# EAGLE library part XC3S1200FT256 (library xilinx_spartan3_virtex4_and_5)
Xilinx FPGA
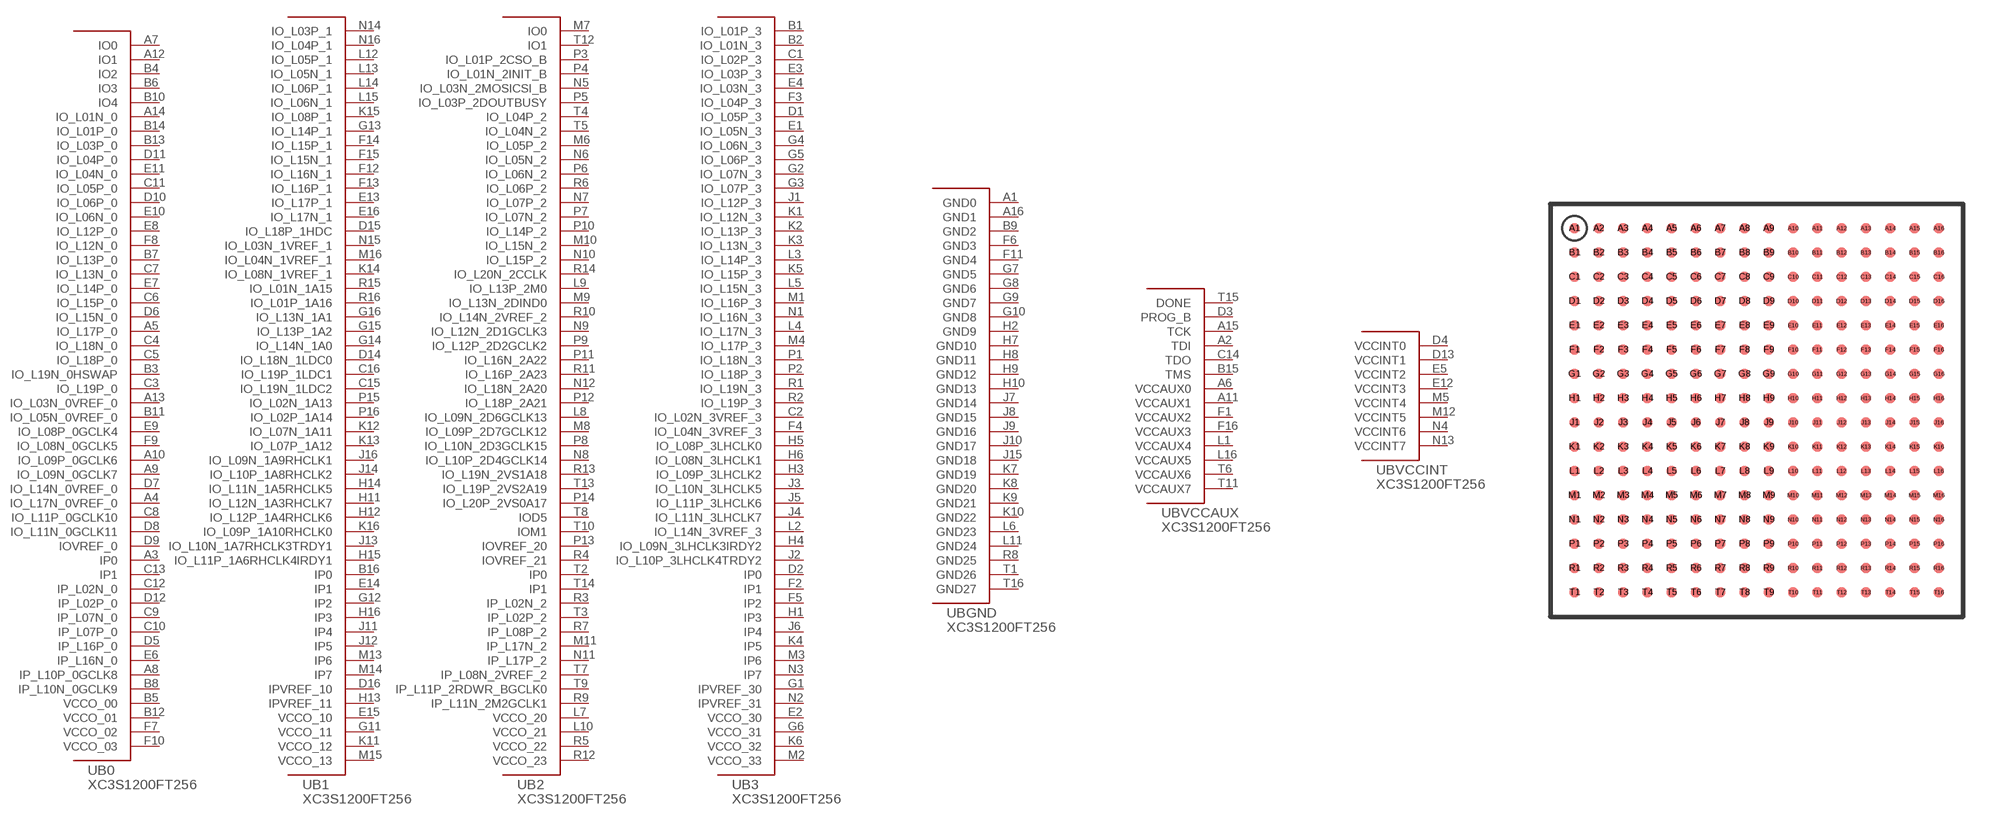
[diagram p54: symbol with the pads of FT256; footprint FT256]

Designator prefix U; gates B0=XC3S1200FT256_0 B1=XC3S1200FT256_1 B2=XC3S1200FT256_2 B3=XC3S1200FT256_3 BGND=XC3S1200FT256_GND BVCCAUX=XC3S1200FT256_VCCAUX BVCCINT=XC3S1200FT256_VCCINT

## XC3S1200FT256  [FT256]
A1  BGND:GND0  pas
A2  BVCCAUX:TDI
A3  B0:IP0
A4  B0:IO_L17N_0VREF_0
A5  B0:IO_L17P_0
A6  BVCCAUX:VCCAUX0  pas
A7  B0:IO0
A8  B0:IP_L10P_0GCLK8
A9  B0:IO_L09N_0GCLK7
A10  B0:IO_L09P_0GCLK6
A11  BVCCAUX:VCCAUX1  pas
A12  B0:IO1
A13  B0:IO_L03N_0VREF_0
A14  B0:IO_L01N_0
A15  BVCCAUX:TCK
A16  BGND:GND1  pas
B1  B3:IO_L01P_3
B2  B3:IO_L01N_3
B3  B0:IO_L19N_0HSWAP
B4  B0:IO2
B5  B0:VCCO_00  pas
B6  B0:IO3
B7  B0:IO_L13P_0
B8  B0:IP_L10N_0GCLK9
B9  BGND:GND2  pas
B10  B0:IO4
B11  B0:IO_L05N_0VREF_0
B12  B0:VCCO_01  pas
B13  B0:IO_L03P_0
B14  B0:IO_L01P_0
B15  BVCCAUX:TMS
B16  B1:IP0
C1  B3:IO_L02P_3
C2  B3:IO_L02N_3VREF_3
C3  B0:IO_L19P_0
C4  B0:IO_L18N_0
C5  B0:IO_L18P_0
C6  B0:IO_L15P_0
C7  B0:IO_L13N_0
C8  B0:IO_L11P_0GCLK10
C9  B0:IP_L07N_0
C10  B0:IP_L07P_0
C11  B0:IO_L05P_0
C12  B0:IP_L02N_0
C13  B0:IP1
C14  BVCCAUX:TDO
C15  B1:IO_L19N_1LDC2
C16  B1:IO_L19P_1LDC1
D1  B3:IO_L05P_3
D2  B3:IP0
D3  BVCCAUX:PROG_B
D4  BVCCINT:VCCINT0  pas
D5  B0:IP_L16P_0
D6  B0:IO_L15N_0
D7  B0:IO_L14N_0VREF_0
D8  B0:IO_L11N_0GCLK11
D9  B0:IOVREF_0
D10  B0:IO_L06P_0
D11  B0:IO_L04P_0
D12  B0:IP_L02P_0
D13  BVCCINT:VCCINT1  pas
D14  B1:IO_L18N_1LDC0
D15  B1:IO_L18P_1HDC
D16  B1:IPVREF_10
E1  B3:IO_L05N_3
E2  B3:VCCO_30  pas
E3  B3:IO_L03P_3
E4  B3:IO_L03N_3
E5  BVCCINT:VCCINT2  pas
E6  B0:IP_L16N_0
E7  B0:IO_L14P_0
E8  B0:IO_L12P_0
E9  B0:IO_L08P_0GCLK4
E10  B0:IO_L06N_0
E11  B0:IO_L04N_0
E12  BVCCINT:VCCINT3  pas
E13  B1:IO_L17P_1
E14  B1:IP1
E15  B1:VCCO_10  pas
E16  B1:IO_L17N_1
F1  BVCCAUX:VCCAUX2  pas
F2  B3:IP1
F3  B3:IO_L04P_3
F4  B3:IO_L04N_3VREF_3
F5  B3:IP2
F6  BGND:GND3  pas
F7  B0:VCCO_02  pas
F8  B0:IO_L12N_0
F9  B0:IO_L08N_0GCLK5
F10  B0:VCCO_03  pas
F11  BGND:GND4  pas
F12  B1:IO_L16N_1
F13  B1:IO_L16P_1
F14  B1:IO_L15P_1
F15  B1:IO_L15N_1
F16  BVCCAUX:VCCAUX3  pas
G1  B3:IPVREF_30
G2  B3:IO_L07N_3
G3  B3:IO_L07P_3
G4  B3:IO_L06N_3
G5  B3:IO_L06P_3
G6  B3:VCCO_31  pas
G7  BGND:GND5  pas
G8  BGND:GND6  pas
G9  BGND:GND7  pas
G10  BGND:GND8  pas
G11  B1:VCCO_11  pas
G12  B1:IP2
G13  B1:IO_L14P_1
G14  B1:IO_L14N_1A0
G15  B1:IO_L13P_1A2
G16  B1:IO_L13N_1A1
H1  B3:IP3
H2  BGND:GND9  pas
H3  B3:IO_L09P_3LHCLK2
H4  B3:IO_L09N_3LHCLK3IRDY2
H5  B3:IO_L08P_3LHCLK0
H6  B3:IO_L08N_3LHCLK1
H7  BGND:GND10  pas
H8  BGND:GND11  pas
H9  BGND:GND12  pas
H10  BGND:GND13  pas
H11  B1:IO_L12N_1A3RHCLK7
H12  B1:IO_L12P_1A4RHCLK6
H13  B1:IPVREF_11
H14  B1:IO_L11N_1A5RHCLK5
H15  B1:IO_L11P_1A6RHCLK4IRDY1
H16  B1:IP3
J1  B3:IO_L12P_3
J2  B3:IO_L10P_3LHCLK4TRDY2
J3  B3:IO_L10N_3LHCLK5
J4  B3:IO_L11N_3LHCLK7
J5  B3:IO_L11P_3LHCLK6
J6  B3:IP4
J7  BGND:GND14  pas
J8  BGND:GND15  pas
J9  BGND:GND16  pas
J10  BGND:GND17  pas
J11  B1:IP4
J12  B1:IP5
J13  B1:IO_L10N_1A7RHCLK3TRDY1
J14  B1:IO_L10P_1A8RHCLK2
J15  BGND:GND18  pas
J16  B1:IO_L09N_1A9RHCLK1
K1  B3:IO_L12N_3
K2  B3:IO_L13P_3
K3  B3:IO_L13N_3
K4  B3:IP5
K5  B3:IO_L15P_3
K6  B3:VCCO_32  pas
K7  BGND:GND19  pas
K8  BGND:GND20  pas
K9  BGND:GND21  pas
K10  BGND:GND22  pas
K11  B1:VCCO_12  pas
K12  B1:IO_L07N_1A11
K13  B1:IO_L07P_1A12
K14  B1:IO_L08N_1VREF_1
K15  B1:IO_L08P_1
K16  B1:IO_L09P_1A10RHCLK0
L1  BVCCAUX:VCCAUX4  pas
L2  B3:IO_L14N_3VREF_3
L3  B3:IO_L14P_3
L4  B3:IO_L17N_3
L5  B3:IO_L15N_3
L6  BGND:GND23  pas
L7  B2:VCCO_20  pas
L8  B2:IO_L09N_2D6GCLK13
L9  B2:IO_L13P_2M0
L10  B2:VCCO_21  pas
L11  BGND:GND24  pas
L12  B1:IO_L05P_1
L13  B1:IO_L05N_1
L14  B1:IO_L06P_1
L15  B1:IO_L06N_1
L16  BVCCAUX:VCCAUX5  pas
M1  B3:IO_L16P_3
M2  B3:VCCO_33  pas
M3  B3:IP6
M4  B3:IO_L17P_3
M5  BVCCINT:VCCINT4  pas
M6  B2:IO_L05P_2
M7  B2:IO0
M8  B2:IO_L09P_2D7GCLK12
M9  B2:IO_L13N_2DIND0
M10  B2:IO_L15N_2
M11  B2:IP_L17N_2
M12  BVCCINT:VCCINT5  pas
M13  B1:IP6
M14  B1:IP7
M15  B1:VCCO_13  pas
M16  B1:IO_L04N_1VREF_1
N1  B3:IO_L16N_3
N2  B3:IPVREF_31
N3  B3:IP7
N4  BVCCINT:VCCINT6  pas
N5  B2:IO_L03N_2MOSICSI_B
N6  B2:IO_L05N_2
N7  B2:IO_L07P_2
N8  B2:IO_L10P_2D4GCLK14
N9  B2:IO_L12N_2D1GCLK3
N10  B2:IO_L15P_2
N11  B2:IP_L17P_2
N12  B2:IO_L18N_2A20
N13  BVCCINT:VCCINT7  pas
N14  B1:IO_L03P_1
N15  B1:IO_L03N_1VREF_1
N16  B1:IO_L04P_1
P1  B3:IO_L18N_3
P2  B3:IO_L18P_3
P3  B2:IO_L01P_2CSO_B
P4  B2:IO_L01N_2INIT_B
P5  B2:IO_L03P_2DOUTBUSY
P6  B2:IO_L06N_2
P7  B2:IO_L07N_2
P8  B2:IO_L10N_2D3GCLK15
P9  B2:IO_L12P_2D2GCLK2
P10  B2:IO_L14P_2
P11  B2:IO_L16N_2A22
P12  B2:IO_L18P_2A21
P13  B2:IOVREF_20
P14  B2:IO_L20P_2VS0A17
P15  B1:IO_L02N_1A13
P16  B1:IO_L02P_1A14
R1  B3:IO_L19N_3
R2  B3:IO_L19P_3
R3  B2:IP_L02N_2
R4  B2:IOVREF_21
R5  B2:VCCO_22  pas
R6  B2:IO_L06P_2
R7  B2:IP_L08P_2
R8  BGND:GND25  pas
R9  B2:IP_L11N_2M2GCLK1
R10  B2:IO_L14N_2VREF_2
R11  B2:IO_L16P_2A23
R12  B2:VCCO_23  pas
R13  B2:IO_L19N_2VS1A18
R14  B2:IO_L20N_2CCLK
R15  B1:IO_L01N_1A15
R16  B1:IO_L01P_1A16
T1  BGND:GND26  pas
T2  B2:IP0
T3  B2:IP_L02P_2
T4  B2:IO_L04P_2
T5  B2:IO_L04N_2
T6  BVCCAUX:VCCAUX6  pas
T7  B2:IP_L08N_2VREF_2
T8  B2:IOD5
T9  B2:IP_L11P_2RDWR_BGCLK0
T10  B2:IOM1
T11  BVCCAUX:VCCAUX7  pas
T12  B2:IO1
T13  B2:IO_L19P_2VS2A19
T14  B2:IP1
T15  BVCCAUX:DONE
T16  BGND:GND27  pas

## Footprint FT256 (pad centres in mm)
smd 0.4 x 0.4: A1 -7.5,7.5; A2 -6.5,7.5; A3 -5.5,7.5; A4 -4.5,7.5; A5 -3.5,7.5; A6 -2.5,7.5; A7 -1.5,7.5; A8 -0.5,7.5; A9 0.5,7.5; A10 1.5,7.5; A11 2.5,7.5; A12 3.5,7.5; A13 4.5,7.5; A14 5.5,7.5; A15 6.5,7.5; A16 7.5,7.5; B1 -7.5,6.5; B2 -6.5,6.5; B3 -5.5,6.5; B4 -4.5,6.5; B5 -3.5,6.5; B6 -2.5,6.5; B7 -1.5,6.5; B8 -0.5,6.5; B9 0.5,6.5; B10 1.5,6.5; B11 2.5,6.5; B12 3.5,6.5; B13 4.5,6.5; B14 5.5,6.5; B15 6.5,6.5; B16 7.5,6.5; C1 -7.5,5.5; C2 -6.5,5.5; C3 -5.5,5.5; C4 -4.5,5.5; C5 -3.5,5.5; C6 -2.5,5.5; C7 -1.5,5.5; C8 -0.5,5.5; C9 0.5,5.5; C10 1.5,5.5; C11 2.5,5.5; C12 3.5,5.5; C13 4.5,5.5; C14 5.5,5.5; C15 6.5,5.5; C16 7.5,5.5; D1 -7.5,4.5; D2 -6.5,4.5; D3 -5.5,4.5; D4 -4.5,4.5; D5 -3.5,4.5; D6 -2.5,4.5; D7 -1.5,4.5; D8 -0.5,4.5; D9 0.5,4.5; D10 1.5,4.5; D11 2.5,4.5; D12 3.5,4.5; D13 4.5,4.5; D14 5.5,4.5; D15 6.5,4.5; D16 7.5,4.5; E1 -7.5,3.5; E2 -6.5,3.5; E3 -5.5,3.5; E4 -4.5,3.5; E5 -3.5,3.5; E6 -2.5,3.5; E7 -1.5,3.5; E8 -0.5,3.5; E9 0.5,3.5; E10 1.5,3.5; E11 2.5,3.5; E12 3.5,3.5; E13 4.5,3.5; E14 5.5,3.5; E15 6.5,3.5; E16 7.5,3.5; F1 -7.5,2.5; F2 -6.5,2.5; F3 -5.5,2.5; F4 -4.5,2.5; F5 -3.5,2.5; F6 -2.5,2.5; F7 -1.5,2.5; F8 -0.5,2.5; F9 0.5,2.5; F10 1.5,2.5; F11 2.5,2.5; F12 3.5,2.5; F13 4.5,2.5; F14 5.5,2.5; F15 6.5,2.5; F16 7.5,2.5; G1 -7.5,1.5; G2 -6.5,1.5; G3 -5.5,1.5; G4 -4.5,1.5; G5 -3.5,1.5; G6 -2.5,1.5; G7 -1.5,1.5; G8 -0.5,1.5; G9 0.5,1.5; G10 1.5,1.5; G11 2.5,1.5; G12 3.5,1.5; G13 4.5,1.5; G14 5.5,1.5; G15 6.5,1.5; G16 7.5,1.5; H1 -7.5,0.5; H2 -6.5,0.5; H3 -5.5,0.5; H4 -4.5,0.5; H5 -3.5,0.5; H6 -2.5,0.5; H7 -1.5,0.5; H8 -0.5,0.5; H9 0.5,0.5; H10 1.5,0.5; H11 2.5,0.5; H12 3.5,0.5; H13 4.5,0.5; H14 5.5,0.5; H15 6.5,0.5; H16 7.5,0.5; J1 -7.5,-0.5; J2 -6.5,-0.5; J3 -5.5,-0.5; J4 -4.5,-0.5; J5 -3.5,-0.5; J6 -2.5,-0.5; J7 -1.5,-0.5; J8 -0.5,-0.5; J9 0.5,-0.5; J10 1.5,-0.5; J11 2.5,-0.5; J12 3.5,-0.5; J13 4.5,-0.5; J14 5.5,-0.5; J15 6.5,-0.5; J16 7.5,-0.5; K1 -7.5,-1.5; K2 -6.5,-1.5; K3 -5.5,-1.5; K4 -4.5,-1.5; K5 -3.5,-1.5; K6 -2.5,-1.5; K7 -1.5,-1.5; K8 -0.5,-1.5; K9 0.5,-1.5; K10 1.5,-1.5; K11 2.5,-1.5; K12 3.5,-1.5; K13 4.5,-1.5; K14 5.5,-1.5; K15 6.5,-1.5; K16 7.5,-1.5; L1 -7.5,-2.5; L2 -6.5,-2.5; L3 -5.5,-2.5; L4 -4.5,-2.5; L5 -3.5,-2.5; L6 -2.5,-2.5; L7 -1.5,-2.5; L8 -0.5,-2.5; L9 0.5,-2.5; L10 1.5,-2.5; L11 2.5,-2.5; L12 3.5,-2.5; L13 4.5,-2.5; L14 5.5,-2.5; L15 6.5,-2.5; L16 7.5,-2.5; M1 -7.5,-3.5; M2 -6.5,-3.5; M3 -5.5,-3.5; M4 -4.5,-3.5; M5 -3.5,-3.5; M6 -2.5,-3.5; M7 -1.5,-3.5; M8 -0.5,-3.5; M9 0.5,-3.5; M10 1.5,-3.5; M11 2.5,-3.5; M12 3.5,-3.5; M13 4.5,-3.5; M14 5.5,-3.5; M15 6.5,-3.5; M16 7.5,-3.5; N1 -7.5,-4.5; N2 -6.5,-4.5; N3 -5.5,-4.5; N4 -4.5,-4.5; N5 -3.5,-4.5; N6 -2.5,-4.5; N7 -1.5,-4.5; N8 -0.5,-4.5; N9 0.5,-4.5; N10 1.5,-4.5; N11 2.5,-4.5; N12 3.5,-4.5; N13 4.5,-4.5; N14 5.5,-4.5; N15 6.5,-4.5; N16 7.5,-4.5; P1 -7.5,-5.5; P2 -6.5,-5.5; P3 -5.5,-5.5; P4 -4.5,-5.5; P5 -3.5,-5.5; P6 -2.5,-5.5; P7 -1.5,-5.5; P8 -0.5,-5.5; P9 0.5,-5.5; P10 1.5,-5.5; P11 2.5,-5.5; P12 3.5,-5.5; P13 4.5,-5.5; P14 5.5,-5.5; P15 6.5,-5.5; P16 7.5,-5.5; R1 -7.5,-6.5; R2 -6.5,-6.5; R3 -5.5,-6.5; R4 -4.5,-6.5; R5 -3.5,-6.5; R6 -2.5,-6.5; R7 -1.5,-6.5; R8 -0.5,-6.5; R9 0.5,-6.5; R10 1.5,-6.5; R11 2.5,-6.5; R12 3.5,-6.5; R13 4.5,-6.5; R14 5.5,-6.5; R15 6.5,-6.5; R16 7.5,-6.5; T1 -7.5,-7.5; T2 -6.5,-7.5; T3 -5.5,-7.5; T4 -4.5,-7.5; T5 -3.5,-7.5; T6 -2.5,-7.5; T7 -1.5,-7.5; T8 -0.5,-7.5; T9 0.5,-7.5; T10 1.5,-7.5; T11 2.5,-7.5; T12 3.5,-7.5; T13 4.5,-7.5; T14 5.5,-7.5; T15 6.5,-7.5; T16 7.5,-7.5